# Altium schematic symbol library IC_Texas_Instruments_SN74LVC4245ADWR_eec.SchLib: 1 symbol
Pins are listed as number, name and electrical type; pins without a type are passive.

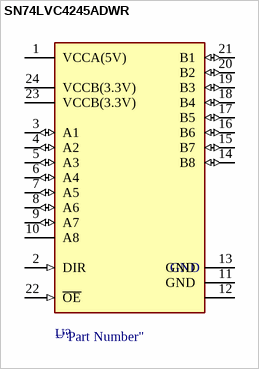
[diagram p0: symbol SN74LVC4245ADWR]

## SN74LVC4245ADWR
designator U?  (value not drawn)
pins: 1 VCCA(5V) (power), 2 DIR (in), 3 A1 (io), 4 A2 (io), 5 A3 (io), 6 A4 (io), 7 A5 (io), 8 A6 (io), 9 A7 (io), 10 A8 (power), 11 GND (power), 12 GND (power), 13 GND (power), 14 B8 (io), 15 B7 (io), 16 B6 (io), 17 B5 (io), 18 B4 (io), 19 B3 (io), 20 B2 (io), 21 B1 (io), 22 ~{OE} (in), 23 VCCB(3.3V) (power), 24 VCCB(3.3V) (power)